# Altium integrated library IVV_IC.IntLib: 16 symbols
Pins are listed as number, name and electrical type; pins without a type are passive.

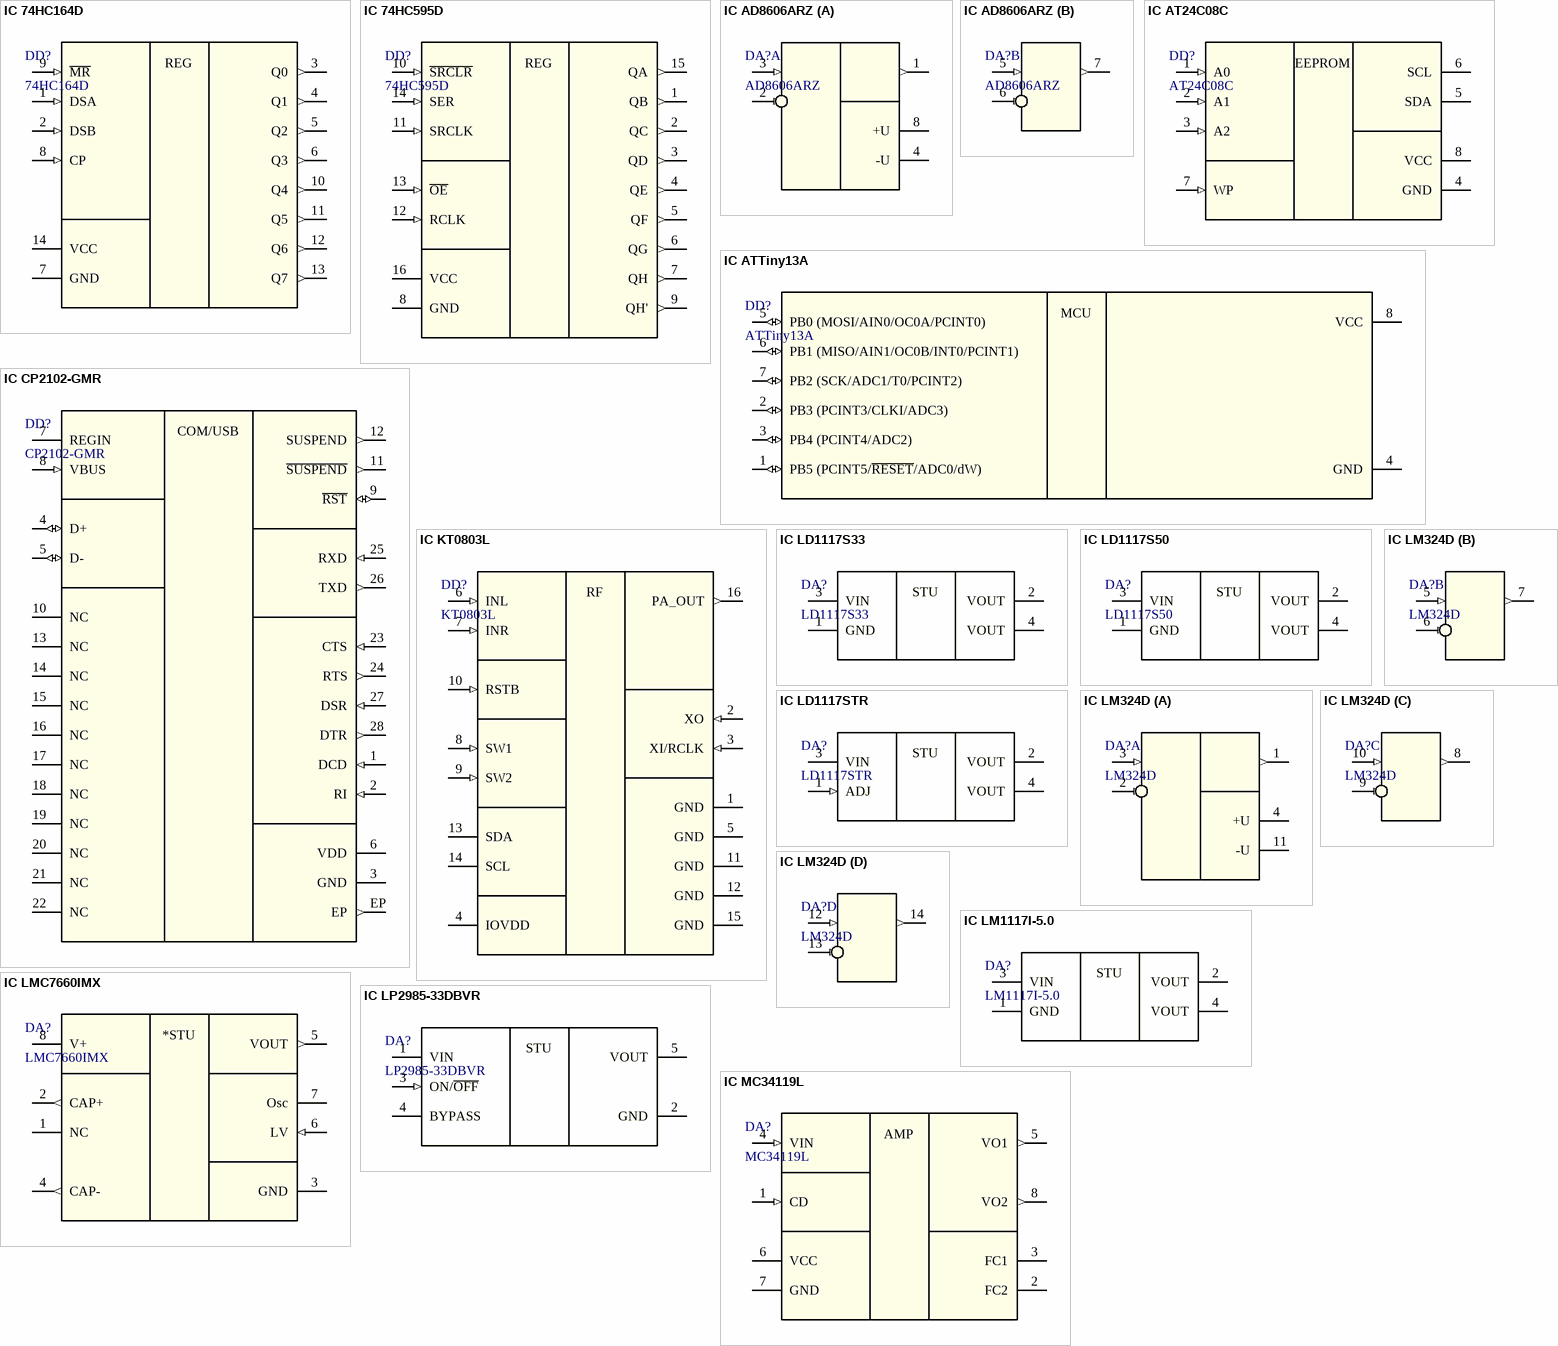
[diagram p0: symbols IC 74HC164D to IC MC34119L]

## IC 74HC164D
designator DD?, comment 74HC164D
Value: 74HC164D
footprint IC 74HC164D
pins: 1 DSA (in), 2 DSB (in), 3 Q0 (out), 4 Q1 (out), 5 Q2 (out), 6 Q3 (out), 7 GND (power), 8 CP (in), 9 ~{MR} (in), 10 Q4 (out), 11 Q5 (out), 12 Q6 (out), 13 Q7 (out), 14 VCC (power)
text: REG

## IC 74HC595D
designator DD?, comment 74HC595D
Value: 74HC595D
footprint IC 74HC595D
pins: 1 QB (out), 2 QC (out), 3 QD (out), 4 QE (out), 5 QF (out), 6 QG (out), 7 QH (out), 8 GND (power), 9 QH' (out), 10 ~{SRCLR} (in), 11 SRCLK (in), 12 RCLK (in), 13 ~{OE} (in), 14 SER (in), 15 QA (out), 16 VCC (power)
text: REG

## IC AD8606ARZ
designator DA?, comment AD8606ARZ
Value: AD8606ARZ
footprint IC AD8606ARZ
part A pins: 1 OUTA (out), 2 -INA (in), 3 +INA (in), 4 -U (power), 8 +U (power)
part B pins: 5 INB+ (in), 6 INB- (in), 7 OUTB (out)

## IC AT24C08C
designator DD?, comment AT24C08C
Value: AT24C08C
footprint IC AT24C08C
pins: 1 A0 (in), 2 A1 (in), 3 A2 (in), 4 GND (power), 5 SDA (oc), 6 SCL (oc), 7 WP (in), 8 VCC (power)
text: EEPROM

## IC ATTiny13A
designator DD?, comment ATTiny13A
Value: ATTiny13A
footprint IC ATTiny13A
pins: 1 PB5 (PCINT5/~{RESET}/ADC0/dW) (io), 2 PB3 (PCINT3/CLKI/ADC3) (io), 3 PB4 (PCINT4/ADC2) (io), 4 GND (power), 5 PB0 (MOSI/AIN0/OC0A/PCINT0) (io), 6 PB1 (MISO/AIN1/OC0B/INT0/PCINT1) (io), 7 PB2 (SCK/ADC1/T0/PCINT2) (io), 8 VCC (power)
text: MCU

## IC CP2102-GMR
designator DD?, comment CP2102-GMR
Value: CP2102-GMR
footprint IC CP2102-GMR
pins: 1 DCD (in), 2 RI (in), 3 GND (power), 4 D+ (io), 5 D- (io), 6 VDD (power), 7 REGIN (power), 8 VBUS (in), 9 ~{RST} (io), 10 NC, 11 ~{SUSPEND} (out), 12 SUSPEND (out), 13 NC, 14 NC, 15 NC, 16 NC, 17 NC, 18 NC, 19 NC, 20 NC, 21 NC, 22 NC, 23 CTS (in), 24 RTS (out), 25 RXD (in), 26 TXD (out), 27 DSR (in), 28 DTR (out), EP (out)
text: COM/USB

## IC KT0803L
designator DD?, comment KT0803L
Value: KT0803L
footprint IC KT0803L
pins: 1 GND (power), 2 XO (in), 3 XI/RCLK (in), 4 IOVDD (power), 5 GND (power), 6 INL (in), 7 INR (in), 8 SW1 (in), 9 SW2 (in), 10 RSTB (in), 11 GND (power), 12 GND (power), 13 SDA (oc), 14 SCL (oc), 15 GND (power), 16 PA_OUT (out)
text: RF

## IC LD1117S33
designator DA?, comment LD1117S33
Value: LD1117S33
footprint IC LD1117S33
pins: 1 GND (power), 2 VOUT (power), 3 VIN (power), 4 VOUT (power)
text: STU

## IC LD1117S50
designator DA?, comment LD1117S50
Value: LD1117S50
footprint IC LD1117S50
pins: 1 GND (power), 2 VOUT (power), 3 VIN (power), 4 VOUT (power)
text: STU

## IC LD1117STR
designator DA?, comment LD1117STR
Value: LD1117STR
footprint IC LD1117STR
pins: 1 ADJ (in), 2 VOUT (power), 3 VIN (power), 4 VOUT (power)
text: STU

## IC LM324D
designator DA?, comment LM324D
Value: LM324D
footprint IC LM324D
part A pins: 1 OUTA (out), 2 -INA (in), 3 +INA (in), 4 +U (power), 11 -U (power)
part B pins: 5 INB+ (in), 6 INB- (in), 7 OUTB (out)
part C pins: 8 OUTC (out), 9 INC- (in), 10 INC+ (in)
part D pins: 12 IND+ (in), 13 IND- (in), 14 OUTD (out)

## IC LM1117I-5.0
designator DA?, comment LM1117I-5.0
Value: LM1117I-5.0
footprint IC LM1117I-5.0
pins: 1 GND (power), 2 VOUT (power), 3 VIN (power), 4 VOUT (power)
text: STU

## IC LMC7660IMX
designator DA?, comment LMC7660IMX
Value: LMC7660IMX
footprint IC LMC7660IMX
pins: 1 NC, 2 CAP+ (out), 3 GND (power), 4 CAP- (out), 5 VOUT (out), 6 LV (in), 7 Osc, 8 V+ (power)
text: *STU

## IC LP2985-33DBVR
designator DA?, comment LP2985-33DBVR
Value: LP2985-33DBVR
footprint IC LP2985-33DBVR
pins: 1 VIN (power), 2 GND (power), 3 ON/~{OFF} (in), 4 BYPASS, 5 VOUT (power)
text: STU

## IC MC34119L
designator DA?, comment MC34119L
Value: MC34119L
footprint IC MC34119L
pins: 1 CD (in), 2 FC2, 3 FC1, 4 VIN (in), 5 VO1 (out), 6 VCC (power), 7 GND (power), 8 VO2 (out)
text: AMP

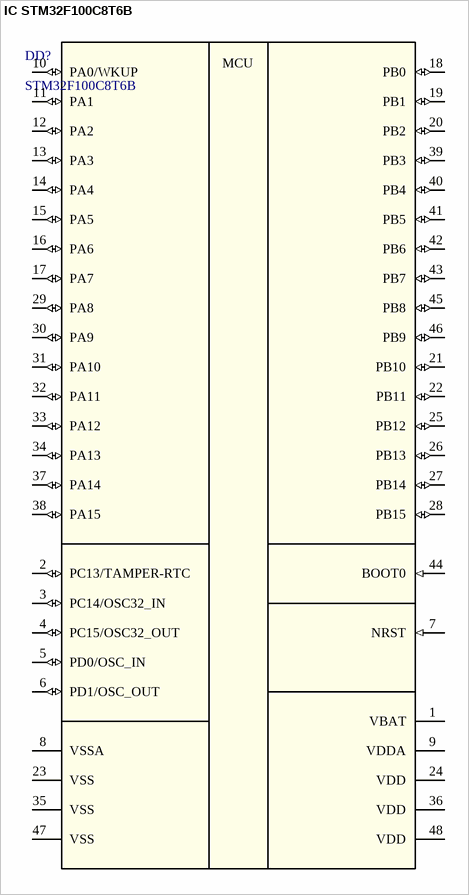
[diagram p1: symbol IC STM32F100C8T6B]

## IC STM32F100C8T6B
designator DD?, comment STM32F100C8T6B
Value: STM32F100C8T6B
footprint IC STM32F100C8T6B
pins: 1 VBAT (power), 2 PC13/TAMPER-RTC (io), 3 PC14/OSC32_IN (io), 4 PC15/OSC32_OUT (io), 5 PD0/OSC_IN (io), 6 PD1/OSC_OUT (io), 7 NRST (in), 8 VSSA (power), 9 VDDA (power), 10 PA0/WKUP (io), 11 PA1 (io), 12 PA2 (io), 13 PA3 (io), 14 PA4 (io), 15 PA5 (io), 16 PA6 (io), 17 PA7 (io), 18 PB0 (io), 19 PB1 (io), 20 PB2 (io), 21 PB10 (io), 22 PB11 (io), 23 VSS (power), 24 VDD (power), 25 PB12 (io), 26 PB13 (io), 27 PB14 (io), 28 PB15 (io), 29 PA8 (io), 30 PA9 (io), 31 PA10 (io), 32 PA11 (io), 33 PA12 (io), 34 PA13 (io), 35 VSS (power), 36 VDD (power), 37 PA14 (io), 38 PA15 (io), 39 PB3 (io), 40 PB4 (io), 41 PB5 (io), 42 PB6 (io), 43 PB7 (io), 44 BOOT0 (in), 45 PB8 (io), 46 PB9 (io), 47 VSS (power), 48 VDD (power)
text: MCU